# Altium footprint library Standard.PcbLib: 21 footprints (part 1 of 2)
Each footprint in its own frame and in the unit in brackets; x right, y up, seen from the top. Pads: shape width x height; smd on the part's side, far side on the other; paste and mask are expansions set on the pad; w line width, h text height; cw(c..) or ccw(c..) is an arc to the next point about the centre after c.
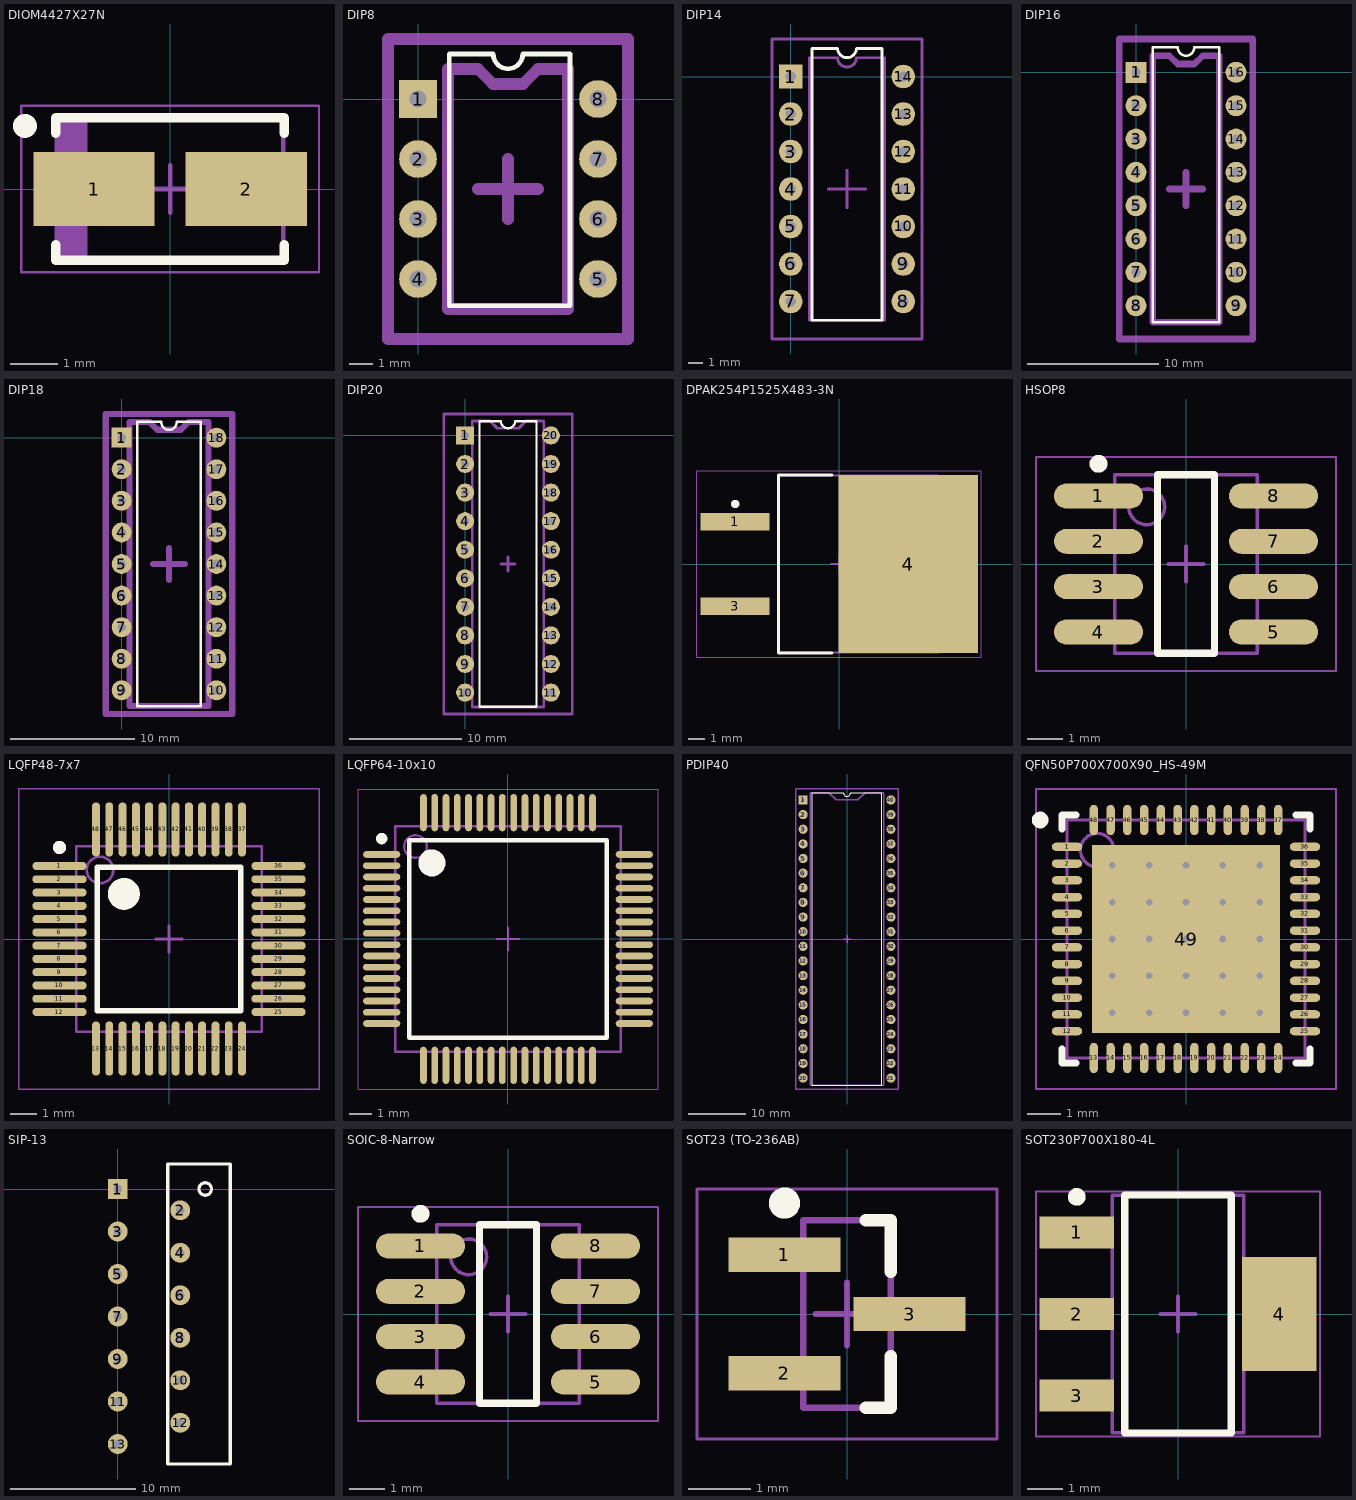
[diagram p0: the footprints below, top view; thin cyan lines are the x and y axes]

## DIOM4427X27N [mm] "Molded Diode, 2-Leads, Body 4,38x2,73mm, IPC Medium Density"
height 2.7
pads (2):
  rect 2.55x1.55 smd: 1(-1.6,0) 2(1.6,0)
Top Overlay:
  circle w0.25: c-3.05,1.325 r0.125
  lines w0.2: -2.4,-1.175 -2.4,-1.5 2.4,-1.5 2.4,-1.175 ; -2.4,1.175 -2.4,1.5 2.4,1.5 2.4,1.175
Mechanical 13:
  rectangle: -2.375,-1.475 -1.736,1.475
  lines w0.1: -2.375,-1.475 -2.375,1.475 2.375,1.475 2.375,-1.475 -2.375,-1.475
Mechanical 15:
  lines w0.05: -3.125,-1.75 -3.125,1.75 3.125,1.75 3.125,-1.75 -3.125,-1.75
  lines w0.1: -0.5,0 0.5,0 ; 0,-0.5 0,0.5
3D body "DIOM4427X27N.step": height 2.7, standoff 0, extent -2.595,-1.475 2.595,1.475

## DIP8 [mm]
pads (8):
  rect 1.6x1.6 hole 0.7: 1(0,0)
  round 1.6 hole 0.7: 2(0,-2.54) 3(0,-5.08) 4(0,-7.62) 5(7.62,-7.62) 6(7.62,-5.08) 7(7.62,-2.54) 8(7.62,0)
Top Overlay:
  lines w0.2: 1.323,-8.75 6.431,-8.75 6.431,1.905 6.35,1.905 4.435,1.905 cw(c3.81,1.905) 3.185,1.905 1.323,1.905 1.323,-8.75
Mechanical 13:
  lines w0.5: 1.27,-8.89 6.35,-8.89 6.35,1.27 5.08,1.27 4.445,0.635 3.175,0.635 2.54,1.27 1.27,1.27 1.27,-8.89
Mechanical 15:
  lines w0.5: 2.54,-3.81 3.81,-3.81 ; 3.81,-5.08 3.81,-3.81 ; 3.81,-2.54 3.81,-3.81 ; 5.08,-3.81 3.81,-3.81 ; -1.27,-10.16 8.89,-10.16 8.89,2.54 -1.27,2.54 -1.27,-10.16
3D body "DIP8-DEFAULT.STEP": height 4.19, standoff -2.67, extent -0.127,-9.525 7.747,1.905

## DIP14 [mm]
pads (14):
  rect 1.6x1.6 hole 0.7: 1(0,0)
  round 1.6 hole 0.7: 2(0,-2.54) 3(0,-5.08) 4(0,-7.62) 5(0,-10.16) 6(0,-12.7) 7(0,-15.24) 8(7.62,-15.24) 9(7.62,-12.7) 10(7.62,-10.16) 11(7.62,-7.62) 12(7.62,-5.08) 13(7.62,-2.54) 14(7.62,0)
Top Overlay:
  lines w0.2: 1.435,-16.51 1.435,1.905 3.175,1.905 ccw(c3.81,1.905) 4.445,1.905 6.185,1.905 6.185,-16.51 1.435,-16.51
Mechanical 13:
  lines w0.2: 1.27,-16.51 6.35,-16.51 6.35,1.27 4.445,1.27 cw(c3.81,1.27) 3.81,0.635 cw(c3.81,1.27) 3.175,1.27 1.905,1.27 1.27,1.27 1.27,-16.51
Mechanical 15:
  lines w0.2: 2.54,-7.62 3.81,-7.62 ; 3.81,-8.89 3.81,-7.62 ; 3.81,-6.35 3.81,-7.62 ; 5.08,-7.62 3.81,-7.62 ; -1.27,-17.78 8.89,-17.78 8.89,2.54 -1.27,2.54 -1.27,-17.78
3D body "DIP14.step": height 4.19, standoff -2.67, extent -0.127,-17.145 7.747,1.905

## DIP16 [mm]
pads (16):
  rect 1.6x1.6 hole 0.7: 1(0,0)
  round 1.6 hole 0.7: 2(0,-2.54) 3(0,-5.08) 4(0,-7.62) 5(0,-10.16) 6(0,-12.7) 7(0,-15.24) 8(0,-17.78) 9(7.62,-17.78) 10(7.62,-15.24) 11(7.62,-12.7) 12(7.62,-10.16) 13(7.62,-7.62) 14(7.62,-5.08) 15(7.62,-2.54) 16(7.62,0)
Top Overlay:
  lines w0.2: 1.27,-19.05 1.27,1.905 3.175,1.905 ccw(c3.81,1.905) 3.81,1.27 ccw(c3.81,1.905) 4.445,1.905 6.35,1.905 6.35,-19.05 1.27,-19.05
Mechanical 13:
  lines w0.5: 1.27,-19.05 1.27,1.27 2.54,1.27 3.175,0.635 4.445,0.635 5.08,1.27 6.35,1.27 6.35,-19.05 1.27,-19.05
Mechanical 15:
  lines w0.5: 2.54,-8.89 3.81,-8.89 ; 3.81,-10.16 3.81,-8.89 ; 3.81,-7.62 3.81,-8.89 ; 5.08,-8.89 3.81,-8.89 ; -1.27,-20.32 -1.27,2.54 8.89,2.54 8.89,-20.32 -1.27,-20.32
3D body "User Library-DIP16-22mm.STEP": height 5.15, standoff -2.49, extent -0.127,-19.841 7.743,2.159

## DIP18 [mm]
pads (18):
  rect 1.6x1.6 hole 0.7: 1(0,0)
  round 1.6 hole 0.7: 2(0,-2.54) 3(0,-5.08) 4(0,-7.62) 5(0,-10.16) 6(0,-12.7) 7(0,-15.24) 8(0,-17.78) 9(0,-20.32) 10(7.62,-20.32) 11(7.62,-17.78) 12(7.62,-15.24) 13(7.62,-12.7) 14(7.62,-10.16) 15(7.62,-7.62) 16(7.62,-5.08) 17(7.62,-2.54) 18(7.62,0)
Top Overlay:
  lines w0.2: 1.27,-21.59 6.35,-21.59 6.35,1.27 4.445,1.27 cw(c3.81,1.27) 3.175,1.27 1.27,1.27 1.27,-21.59
Mechanical 13:
  lines w0.5: 0.635,-21.59 0.635,1.27 2.222,1.27 2.857,0.635 4.763,0.635 5.397,1.27 6.985,1.27 6.985,-21.59 0.635,-21.59
Mechanical 15:
  lines w0.5: 2.54,-10.16 3.81,-10.16 ; 3.81,-11.43 3.81,-10.16 ; 3.81,-8.89 3.81,-10.16 ; 5.08,-10.16 3.81,-10.16 ; -1.27,-22.225 -1.27,1.905 8.89,1.905 8.89,-22.225 -1.27,-22.225
3D body "DIP18.step": height 5.08, standoff -2.49, extent -0.125,-21.655 7.745,1.335

## DIP20 [mm]
pads (20):
  rect 1.6x1.6 hole 0.7: 1(0,0)
  round 1.6 hole 0.7: 2(0,-2.54) 3(0,-5.08) 4(0,-7.62) 5(0,-10.16) 6(0,-12.7) 7(0,-15.24) 8(0,-17.78) 9(0,-20.32) 10(0,-22.86) 11(7.62,-22.86) 12(7.62,-20.32) 13(7.62,-17.78) 14(7.62,-15.24) 15(7.62,-12.7) 16(7.62,-10.16) 17(7.62,-7.62) 18(7.62,-5.08) 19(7.62,-2.54) 20(7.62,0)
Top Overlay:
  lines w0.2: 1.27,-24.13 6.35,-24.13 6.35,1.27 4.445,1.27 cw(c3.81,1.27) 3.175,1.27 1.27,1.27 1.27,-24.13
Mechanical 13:
  lines w0.254: 0.635,-24.13 6.985,-24.13 6.985,1.27 5.397,1.27 4.763,0.635 2.857,0.635 2.222,1.27 0.635,1.27 0.635,-24.13
Mechanical 15:
  lines w0.254: 3.175,-11.43 3.81,-11.43 ; 3.81,-12.065 3.81,-11.43 ; 3.81,-10.795 3.81,-11.43 ; 4.445,-11.43 3.81,-11.43 ; -1.905,-24.765 9.525,-24.765 9.525,1.905 -1.905,1.905 -1.905,-24.765
3D body "DIP20.STEP": height 4.57, standoff -3.81, extent -0.1,-24.7 7.72,1.84

## DPAK254P1525X483-3N [mm] "D2-PAK, 3-Pads, Body 7,93x8,69mm (max), IPC Medium Density"
height 4.83
pads (3):
  rect 4.15x1.05 smd: 1(-6.25,2.54) 3(-6.25,-2.54)
  rect 8.4x10.7 smd: 4(4.15,0)
Top Overlay:
  circle w0.25: c-6.25,3.615 r0.125
  lines w0.2: -0.45,-5.35 -3.65,-5.35 -3.65,5.35 -0.45,5.35
Mechanical 13:
  lines w0.1: -3.65,-5.325 -3.65,5.325 6,5.325 6,-5.325 -3.65,-5.325
Mechanical 15:
  lines w0.05: -8.55,-5.6 -8.55,5.6 8.55,5.6 8.55,-5.6 -8.55,-5.6
  lines w0.1: -0.5,0 0.5,0 ; 0,-0.5 0,0.5
3D body "DPAK254P1525X483-3N.step": height 4.83, standoff 0, extent -7.37,-5.325 7.875,5.325

## HSOP8 [mm] "SOIC, 8-Leads, Body 4,90x3,90mm, Pitch 1,27mm, IPC Low Density"
height 1.7
pads (8):
  oval 2.5x0.7 smd: 1(-2.45,1.905) 2(-2.45,0.635) 3(-2.45,-0.635) 4(-2.45,-1.905) 5(2.45,-1.905) 6(2.45,-0.635) 7(2.45,0.635) 8(2.45,1.905)
Top Overlay:
  circle w0.25: c-2.45,2.805 r0.125
  lines w0.2: -0.8,-2.5 0.8,-2.5 0.8,2.5 -0.8,2.5 -0.8,-2.5
Mechanical 13:
  circle w0.1: c-1.1,1.6 r0.5
  lines w0.1: -2,-2.5 2,-2.5 2,2.5 -2,2.5 -2,-2.5
Mechanical 15:
  lines w0.05: -4.2,-3 4.2,-3 4.2,3 -4.2,3 -4.2,-3
  lines w0.1: -0.5,0 0.5,0 ; 0,-0.5 0,0.5
3D body: height 1.7, standoff 0.1, extent -2,-2.5 2,2.5

## LQFP48-7x7 [mm] "TSQFP, 48-Leads, Body 7,00x7,00mm, Pitch 0,50mm, IPC Low Density"
height 1.6
pads (48):
  oval 2.05x0.3 smd: 1(-4.125,2.75) 2(-4.125,2.25) 3(-4.125,1.75) 4(-4.125,1.25) 5(-4.125,0.75) 6(-4.125,0.25) 7(-4.125,-0.25) 8(-4.125,-0.75) 9(-4.125,-1.25) 10(-4.125,-1.75) 11(-4.125,-2.25) 12(-4.125,-2.75) 25(4.125,-2.75) 26(4.125,-2.25) 27(4.125,-1.75) 28(4.125,-1.25) 29(4.125,-0.75) 30(4.125,-0.25) 31(4.125,0.25) 32(4.125,0.75) 33(4.125,1.25) 34(4.125,1.75) 35(4.125,2.25) 36(4.125,2.75)
  oval 0.3x2.05 smd: 13(-2.75,-4.125) 14(-2.25,-4.125) 15(-1.75,-4.125) 16(-1.25,-4.125) 17(-0.75,-4.125) 18(-0.25,-4.125) 19(0.25,-4.125) 20(0.75,-4.125) 21(1.25,-4.125) 22(1.75,-4.125) 23(2.25,-4.125) 24(2.75,-4.125) 37(2.75,4.125) 38(2.25,4.125) 39(1.75,4.125) 40(1.25,4.125) 41(0.75,4.125) 42(0.25,4.125) 43(-0.25,4.125) 44(-0.75,4.125) 45(-1.25,4.125) 46(-1.75,4.125) 47(-2.25,4.125) 48(-2.75,4.125)
Top Overlay:
  circle w0.6: c-1.7,1.7 r0.3
  circle w0.25: c-4.125,3.45 r0.125
  lines w0.2: -2.7,-2.7 2.7,-2.7 2.7,2.7 -2.7,2.7 -2.7,-2.7
Mechanical 13:
  circle w0.1: c-2.6,2.6 r0.5
  lines w0.1: -3.5,-3.5 3.5,-3.5 3.5,3.5 -3.5,3.5 -3.5,-3.5
Mechanical 15:
  lines w0.05: -5.65,-5.65 5.65,-5.65 5.65,5.65 -5.65,5.65 -5.65,-5.65
  lines w0.1: -0.5,0 0.5,0 ; 0,-0.5 0,0.5
3D body: height 1.6, standoff 0.05, extent -3.5,-3.5 3.5,3.5

## LQFP64-10x10 [mm] "LQFP, 64-Leads, Body 10,00x10,00mm, Pitch 0,50mm, IPC Medium Density"
height 1.6
pads (64):
  oval 1.65x0.3 smd: 1(-5.6,3.75) 2(-5.6,3.25) 3(-5.6,2.75) 4(-5.6,2.25) 5(-5.6,1.75) 6(-5.6,1.25) 7(-5.6,0.75) 8(-5.6,0.25) 9(-5.6,-0.25) 10(-5.6,-0.75) 11(-5.6,-1.25) 12(-5.6,-1.75) 13(-5.6,-2.25) 14(-5.6,-2.75) 15(-5.6,-3.25) 16(-5.6,-3.75) 33(5.6,-3.75) 34(5.6,-3.25) 35(5.6,-2.75) 36(5.6,-2.25) 37(5.6,-1.75) 38(5.6,-1.25) 39(5.6,-0.75) 40(5.6,-0.25) 41(5.6,0.25) 42(5.6,0.75) 43(5.6,1.25) 44(5.6,1.75) 45(5.6,2.25) 46(5.6,2.75) 47(5.6,3.25) 48(5.6,3.75)
  oval 0.3x1.65 smd: 17(-3.75,-5.6) 18(-3.25,-5.6) 19(-2.75,-5.6) 20(-2.25,-5.6) 21(-1.75,-5.6) 22(-1.25,-5.6) 23(-0.75,-5.6) 24(-0.25,-5.6) 25(0.25,-5.6) 26(0.75,-5.6) 27(1.25,-5.6) 28(1.75,-5.6) 29(2.25,-5.6) 30(2.75,-5.6) 31(3.25,-5.6) 32(3.75,-5.6) 49(3.75,5.6) 50(3.25,5.6) 51(2.75,5.6) 52(2.25,5.6) 53(1.75,5.6) 54(1.25,5.6) 55(0.75,5.6) 56(0.25,5.6) 57(-0.25,5.6) 58(-0.75,5.6) 59(-1.25,5.6) 60(-1.75,5.6) 61(-2.25,5.6) 62(-2.75,5.6) 63(-3.25,5.6) 64(-3.75,5.6)
Top Overlay:
  circle w0.6: c-3.375,3.375 r0.3
  circle w0.25: c-5.6,4.45 r0.125
  lines w0.2: -4.375,-4.375 4.375,-4.375 4.375,4.375 -4.375,4.375 -4.375,-4.375
Mechanical 13:
  circle w0.1: c-4.1,4.1 r0.5
  lines w0.1: -5,-5 5,-5 5,5 -5,5 -5,-5
Mechanical 15:
  lines w0.05: -6.65,-6.65 6.65,-6.65 6.65,6.65 -6.65,6.65 -6.65,-6.65
  lines w0.1: -0.5,0 0.5,0 ; 0,-0.5 0,0.5
3D body: height 1.6, standoff 0.15, extent -5,-5 5,5

## PDIP40 [mm]
pads (40):
  rect 1.6x1.6 hole 0.7: 1(-7.62,24.13)
  round 1.6 hole 0.7: 2(-7.62,21.59) 3(-7.62,19.05) 4(-7.62,16.51) 5(-7.62,13.97) 6(-7.62,11.43) 7(-7.62,8.89) 8(-7.62,6.35) 9(-7.62,3.81) 10(-7.62,1.27) 11(-7.62,-1.27) 12(-7.62,-3.81) 13(-7.62,-6.35) 14(-7.62,-8.89) 15(-7.62,-11.43) 16(-7.62,-13.97) 17(-7.62,-16.51) 18(-7.62,-19.05) 19(-7.62,-21.59) 20(-7.62,-24.13) 21(7.62,-24.13) 22(7.62,-21.59) 23(7.62,-19.05) 24(7.62,-16.51) 25(7.62,-13.97) 26(7.62,-11.43) 27(7.62,-8.89) 28(7.62,-6.35) 29(7.62,-3.81) 30(7.62,-1.27) 31(7.62,1.27) 32(7.62,3.81) 33(7.62,6.35) 34(7.62,8.89) 35(7.62,11.43) 36(7.62,13.97) 37(7.62,16.51) 38(7.62,19.05) 39(7.62,21.59) 40(7.62,24.13)
Top Overlay:
  lines w0.2: -6.035,-25.4 6.035,-25.4 6.035,25.4 0.635,25.4 cw(c0,25.4) -0.635,25.4 -6.035,25.4 -6.035,-25.4
Mechanical 13:
  lines w0.254: -6.35,-25.4 6.35,-25.4 6.35,25.4 3.175,25.4 1.905,24.13 -1.905,24.13 -3.175,25.4 -6.35,25.4 -6.35,-25.4
Mechanical 15:
  lines w0.254: -0.635,0 0,0 ; 0,-0.635 0,0 ; 0,0.635 0,0 ; 0.635,0 0,0 ; -8.89,-26.035 8.89,-26.035 8.89,26.035 -8.89,26.035 -8.89,-26.035
3D body: height 2, standoff 0.1, extent -6.35,-25.4 6.35,25.4
3D body: height 4, standoff 2, extent -6.35,-25.4 6.35,25.4
3D body: height 2.1, standoff -0.5, extent 7.493,-24.384 7.747,-23.876
3D body: height 2.1, standoff 1.9, extent 6.35,-24.384 7.493,-23.876
3D body: height 2.1, standoff 1.9, extent 6.35,-21.844 7.493,-21.336
3D body: height 2.1, standoff -0.5, extent 7.493,-21.844 7.747,-21.336
3D body: height 2.1, standoff 1.9, extent 6.35,-19.304 7.493,-18.796
3D body: height 2.1, standoff -0.5, extent 7.493,-19.304 7.747,-18.796
3D body: height 2.1, standoff 1.9, extent 6.35,-16.764 7.493,-16.256
3D body: height 2.1, standoff -0.5, extent 7.493,-16.764 7.747,-16.256
3D body: height 2.1, standoff 1.9, extent 6.35,-14.224 7.493,-13.716
3D body: height 2.1, standoff -0.5, extent 7.493,-14.224 7.747,-13.716
3D body: height 2.1, standoff 1.9, extent 6.35,-11.684 7.493,-11.176
3D body: height 2.1, standoff -0.5, extent 7.493,-11.684 7.747,-11.176
3D body: height 2.1, standoff 1.9, extent 6.35,-9.144 7.493,-8.636
3D body: height 2.1, standoff -0.5, extent 7.493,-9.144 7.747,-8.636
3D body: height 2.1, standoff 1.9, extent 6.35,-6.604 7.493,-6.096
3D body: height 2.1, standoff -0.5, extent 7.493,-6.604 7.747,-6.096
3D body: height 2.1, standoff 1.9, extent 6.35,-4.064 7.493,-3.556
3D body: height 2.1, standoff -0.5, extent 7.493,-4.064 7.747,-3.556
3D body: height 2.1, standoff 1.9, extent 6.35,-1.524 7.493,-1.016
3D body: height 2.1, standoff -0.5, extent 7.493,-1.524 7.747,-1.016
3D body: height 2.1, standoff 1.9, extent 6.35,1.016 7.493,1.524
3D body: height 2.1, standoff -0.5, extent 7.493,1.016 7.747,1.524
3D body: height 2.1, standoff 1.9, extent 6.35,3.556 7.493,4.064
3D body: height 2.1, standoff -0.5, extent 7.493,3.556 7.747,4.064
3D body: height 2.1, standoff 1.9, extent 6.35,6.096 7.493,6.604
3D body: height 2.1, standoff -0.5, extent 7.493,6.096 7.747,6.604
3D body: height 2.1, standoff 1.9, extent 6.35,8.636 7.493,9.144
3D body: height 2.1, standoff -0.5, extent 7.493,8.636 7.747,9.144
3D body: height 2.1, standoff 1.9, extent 6.35,11.176 7.493,11.684
3D body: height 2.1, standoff -0.5, extent 7.493,11.176 7.747,11.684
3D body: height 2.1, standoff 1.9, extent 6.35,13.716 7.493,14.224
3D body: height 2.1, standoff -0.5, extent 7.493,13.716 7.747,14.224
3D body: height 2.1, standoff 1.9, extent 6.35,16.256 7.493,16.764
3D body: height 2.1, standoff -0.5, extent 7.493,16.256 7.747,16.764
3D body: height 2.1, standoff 1.9, extent 6.35,18.796 7.493,19.304
3D body: height 2.1, standoff -0.5, extent 7.493,18.796 7.747,19.304
3D body: height 2.1, standoff 1.9, extent 6.35,21.336 7.493,21.844
3D body: height 2.1, standoff -0.5, extent 7.493,21.336 7.747,21.844
3D body: height 2.1, standoff 1.9, extent 6.35,23.876 7.493,24.384
3D body: height 2.1, standoff -0.5, extent 7.493,23.876 7.747,24.384
3D body: height 2.1, standoff -0.5, extent -7.747,23.876 -7.493,24.384
3D body: height 2.1, standoff 1.9, extent -7.493,23.876 -6.35,24.384
3D body: height 2.1, standoff 1.9, extent -7.493,21.336 -6.35,21.844
3D body: height 2.1, standoff -0.5, extent -7.747,21.336 -7.493,21.844
3D body: height 2.1, standoff 1.9, extent -7.493,18.796 -6.35,19.304
3D body: height 2.1, standoff -0.5, extent -7.747,18.796 -7.493,19.304
3D body: height 2.1, standoff 1.9, extent -7.493,16.256 -6.35,16.764
3D body: height 2.1, standoff -0.5, extent -7.747,16.256 -7.493,16.764
3D body: height 2.1, standoff 1.9, extent -7.493,13.716 -6.35,14.224
3D body: height 2.1, standoff -0.5, extent -7.747,13.716 -7.493,14.224
3D body: height 2.1, standoff 1.9, extent -7.493,11.176 -6.35,11.684
3D body: height 2.1, standoff -0.5, extent -7.747,11.176 -7.493,11.684
3D body: height 2.1, standoff 1.9, extent -7.493,8.636 -6.35,9.144
3D body: height 2.1, standoff -0.5, extent -7.747,8.636 -7.493,9.144
3D body: height 2.1, standoff 1.9, extent -7.493,6.096 -6.35,6.604
3D body: height 2.1, standoff -0.5, extent -7.747,6.096 -7.493,6.604
3D body: height 2.1, standoff 1.9, extent -7.493,3.556 -6.35,4.064
3D body: height 2.1, standoff -0.5, extent -7.747,3.556 -7.493,4.064
3D body: height 2.1, standoff 1.9, extent -7.493,1.016 -6.35,1.524
3D body: height 2.1, standoff -0.5, extent -7.747,1.016 -7.493,1.524
3D body: height 2.1, standoff 1.9, extent -7.493,-1.524 -6.35,-1.016
3D body: height 2.1, standoff -0.5, extent -7.747,-1.524 -7.493,-1.016
3D body: height 2.1, standoff 1.9, extent -7.493,-4.064 -6.35,-3.556
3D body: height 2.1, standoff -0.5, extent -7.747,-4.064 -7.493,-3.556
3D body: height 2.1, standoff 1.9, extent -7.493,-6.604 -6.35,-6.096
3D body: height 2.1, standoff -0.5, extent -7.747,-6.604 -7.493,-6.096
3D body: height 2.1, standoff 1.9, extent -7.493,-9.144 -6.35,-8.636
3D body: height 2.1, standoff -0.5, extent -7.747,-9.144 -7.493,-8.636
3D body: height 2.1, standoff 1.9, extent -7.493,-11.684 -6.35,-11.176
3D body: height 2.1, standoff -0.5, extent -7.747,-11.684 -7.493,-11.176
3D body: height 2.1, standoff 1.9, extent -7.493,-14.224 -6.35,-13.716
3D body: height 2.1, standoff -0.5, extent -7.747,-14.224 -7.493,-13.716
3D body: height 2.1, standoff 1.9, extent -7.493,-16.764 -6.35,-16.256
3D body: height 2.1, standoff -0.5, extent -7.747,-16.764 -7.493,-16.256
3D body: height 2.1, standoff 1.9, extent -7.493,-19.304 -6.35,-18.796
3D body: height 2.1, standoff -0.5, extent -7.747,-19.304 -7.493,-18.796
3D body: height 2.1, standoff 1.9, extent -7.493,-21.844 -6.35,-21.336
3D body: height 2.1, standoff -0.5, extent -7.747,-21.844 -7.493,-21.336
3D body: height 2.1, standoff 1.9, extent -7.493,-24.384 -6.35,-23.876
3D body: height 2.1, standoff -0.5, extent -7.747,-24.384 -7.493,-23.876

## QFN50P700X700X90_HS-49M [mm] "QFN, 48-Leads, Body 7,00x7,00mm, Pitch 0,50mm, Thermal Pad 5,60x5,60mm, IPC Low Density"
height 0.9
pads (49):
  oval 0.9x0.25 smd: 1(-3.55,2.75) 2(-3.55,2.25) 3(-3.55,1.75) 4(-3.55,1.25) 5(-3.55,0.75) 6(-3.55,0.25) 7(-3.55,-0.25) 8(-3.55,-0.75) 9(-3.55,-1.25) 10(-3.55,-1.75) 11(-3.55,-2.25) 12(-3.55,-2.75) 25(3.55,-2.75) 26(3.55,-2.25) 27(3.55,-1.75) 28(3.55,-1.25) 29(3.55,-0.75) 30(3.55,-0.25) 31(3.55,0.25) 32(3.55,0.75) 33(3.55,1.25) 34(3.55,1.75) 35(3.55,2.25) 36(3.55,2.75)
  oval 0.25x0.9 smd: 13(-2.75,-3.55) 14(-2.25,-3.55) 15(-1.75,-3.55) 16(-1.25,-3.55) 17(-0.75,-3.55) 18(-0.25,-3.55) 19(0.25,-3.55) 20(0.75,-3.55) 21(1.25,-3.55) 22(1.75,-3.55) 23(2.25,-3.55) 24(2.75,-3.55) 37(2.75,3.55) 38(2.25,3.55) 39(1.75,3.55) 40(1.25,3.55) 41(0.75,3.55) 42(0.25,3.55) 43(-0.25,3.55) 44(-0.75,3.55) 45(-1.25,3.55) 46(-1.75,3.55) 47(-2.25,3.55) 48(-2.75,3.55)
  rect 5.6x5.6 smd: 49(0,0)
via 2.2,-2.2 diameter 0.5 hole 0.2
via 1.1,-2.2 diameter 0.5 hole 0.2
via 0,-2.2 diameter 0.5 hole 0.2
via -1.1,-2.2 diameter 0.5 hole 0.2
via -2.2,-2.2 diameter 0.5 hole 0.2
via 2.2,-1.1 diameter 0.5 hole 0.2
via 1.1,-1.1 diameter 0.5 hole 0.2
via 0,-1.1 diameter 0.5 hole 0.2
via -1.1,-1.1 diameter 0.5 hole 0.2
via -2.2,-1.1 diameter 0.5 hole 0.2
via 2.2,0 diameter 0.5 hole 0.2
via 1.1,0 diameter 0.5 hole 0.2
via 0,0 diameter 0.5 hole 0.2
via -1.1,0 diameter 0.5 hole 0.2
via -2.2,0 diameter 0.5 hole 0.2
via 2.2,1.1 diameter 0.5 hole 0.2
via 1.1,1.1 diameter 0.5 hole 0.2
via 0,1.1 diameter 0.5 hole 0.2
via -1.1,1.1 diameter 0.5 hole 0.2
via -2.2,1.1 diameter 0.5 hole 0.2
via 2.2,2.2 diameter 0.5 hole 0.2
via 1.1,2.2 diameter 0.5 hole 0.2
via 0,2.2 diameter 0.5 hole 0.2
via -1.1,2.2 diameter 0.5 hole 0.2
via -2.2,2.2 diameter 0.5 hole 0.2
Top Overlay:
  circle w0.25: c-4.35,3.55 r0.125
  lines w0.2: -3.7,-3.275 -3.7,-3.7 -3.275,-3.7 ; -3.7,3.275 -3.7,3.7 -3.275,3.7 ; 3.275,-3.7 3.7,-3.7 3.7,-3.275 ; 3.275,3.7 3.7,3.7 3.7,3.275
Mechanical 13:
  circle w0.1: c-2.65,2.65 r0.5
  lines w0.1: -3.55,-3.55 3.55,-3.55 3.55,3.55 -3.55,3.55 -3.55,-3.55
Mechanical 15:
  lines w0.05: -4.475,-4.475 4.475,-4.475 4.475,4.475 -4.475,4.475 -4.475,-4.475
  lines w0.1: -0.5,0 0.5,0 ; 0,-0.5 0,0.5
3D body: height 0.9, standoff 0.01, extent -3.55,-3.55 3.55,3.55

## SIP-13 [mm]
pads (13):
  rect 1.6x1.6 hole 0.7: 1(0,0)
  round 1.6 hole 0.7: 2(5,-1.7) 3(0,-3.4) 4(5,-5.1) 5(0,-6.8) 6(5,-8.5) 7(0,-10.2) 8(5,-11.9) 9(0,-13.6) 10(5,-15.3) 11(0,-17) 12(5,-18.7) 13(0,-20.4)
Top Overlay:
  circle w0.254: c7,0 r0.5
  lines w0.254: 4,-22 9,-22 9,2 4,2 4,-22
3D body: height 23, standoff 11, extent 4,-22 9,2
3D body: height 20, standoff 14, extent 9.05,-13.65 9.15,-6.15
3D body: height 11, standoff 0, extent -0.372,-0.374 0.375,0.374
3D body: height 11, standoff 0, extent 4.628,-2.074 5.375,-1.326
3D body: height 11, standoff 0, extent -0.372,-3.774 0.375,-3.026
3D body: height 11, standoff 0, extent 4.628,-5.474 5.375,-4.726
3D body: height 11, standoff 0, extent -0.372,-7.174 0.375,-6.426
3D body: height 11, standoff 0, extent 4.628,-8.874 5.375,-8.126
3D body: height 11, standoff 0, extent -0.372,-10.574 0.375,-9.826
3D body: height 11, standoff 0, extent 4.628,-12.274 5.375,-11.526
3D body: height 11, standoff 0, extent -0.372,-13.974 0.375,-13.226
3D body: height 11, standoff 0, extent 4.628,-15.674 5.375,-14.926
3D body: height 11, standoff 0, extent -0.372,-17.374 0.375,-16.626
3D body: height 11, standoff 0, extent 4.628,-19.074 5.375,-18.326
3D body: height 11, standoff 0, extent -0.372,-20.774 0.375,-20.026

## SOIC-8-Narrow [mm] "SOIC, 8-Leads, Body 4,90x3,90mm, Pitch 1,27mm, IPC Low Density"
height 1.75
pads (8):
  oval 2.5x0.7 smd: 1(-2.45,1.905) 2(-2.45,0.635) 3(-2.45,-0.635) 4(-2.45,-1.905) 5(2.45,-1.905) 6(2.45,-0.635) 7(2.45,0.635) 8(2.45,1.905)
Top Overlay:
  circle w0.25: c-2.45,2.805 r0.125
  lines w0.2: -0.8,-2.5 -0.8,2.5 0.8,2.5 0.8,-2.5 -0.8,-2.5
Mechanical 13:
  circle w0.1: c-1.1,1.6 r0.5
  lines w0.1: -2,-2.5 -2,2.5 2,2.5 2,-2.5 -2,-2.5
Mechanical 15:
  lines w0.05: -4.2,-3 -4.2,3 4.2,3 4.2,-3 -4.2,-3
  lines w0.1: -0.5,0 0.5,0 ; 0,-0.5 0,0.5
3D body: height 1.75, standoff 0.1, extent -2,-2.5 2,2.5

## SOT23 (TO-236AB) [mm] "SOT23, 3-Leads, Body 2,90x2,45mm, Pitch 0,95mm, IPC Low Density"
height 1.1
pads (3):
  rect 1.8x0.55 smd: 1(-1,0.95) 2(-1,-0.95) 3(1,0)
Top Overlay:
  circle w0.25: c-1,1.775 r0.125
  lines w0.2: 0.3,-1.5 0.7,-1.5 0.7,-0.675 ; 0.3,1.5 0.7,1.5 0.7,0.675
Mechanical 13:
  lines w0.1: -0.7,-1.5 -0.7,1.5 0.7,1.5 0.7,-1.5 -0.7,-1.5
Mechanical 15:
  lines w0.05: -2.4,-2 -2.4,2 2.4,2 2.4,-2 -2.4,-2
  lines w0.1: -0.5,0 0.5,0 ; 0,-0.5 0,0.5
3D body: height 1.1, standoff 0.05, extent -0.7,-1.5 0.7,1.5

## SOT230P700X180-4L [mm] "SOT223, 4-Leads, Body 6,50x7,00mm (avg), Pitch 2,30mm, IPC High Density"
height 1.8
pads (4):
  rect 2.1x0.9 smd: 1(-2.85,2.3) 2(-2.85,0) 3(-2.85,-2.3)
  rect 2.1x3.2 smd: 4(2.85,0)
Top Overlay:
  circle w0.25: c-2.85,3.3 r0.125
  lines w0.2: -1.5,-3.35 1.5,-3.35 1.5,3.35 -1.5,3.35 -1.5,-3.35
Mechanical 13:
  lines w0.1: -1.85,-3.35 1.85,-3.35 1.85,3.35 -1.85,3.35 -1.85,-3.35
Mechanical 15:
  lines w0.05: -4,-3.45 4,-3.45 4,3.45 -4,3.45 -4,-3.45
  lines w0.1: -0.5,0 0.5,0 ; 0,-0.5 0,0.5
3D body: height 1.8, standoff 0.02, extent -1.85,-3.35 1.85,3.35